# Altium footprint library PCB - DIODES - LED BICOLOR TH 3MM.PcbLib: 1 footprints
Each footprint in its own frame and in the unit in brackets; x right, y up, seen from the top. Pads: shape width x height; smd on the part's side, far side on the other; paste and mask are expansions set on the pad; w line width, h text height; cw(c..) or ccw(c..) is an arc to the next point about the centre after c.
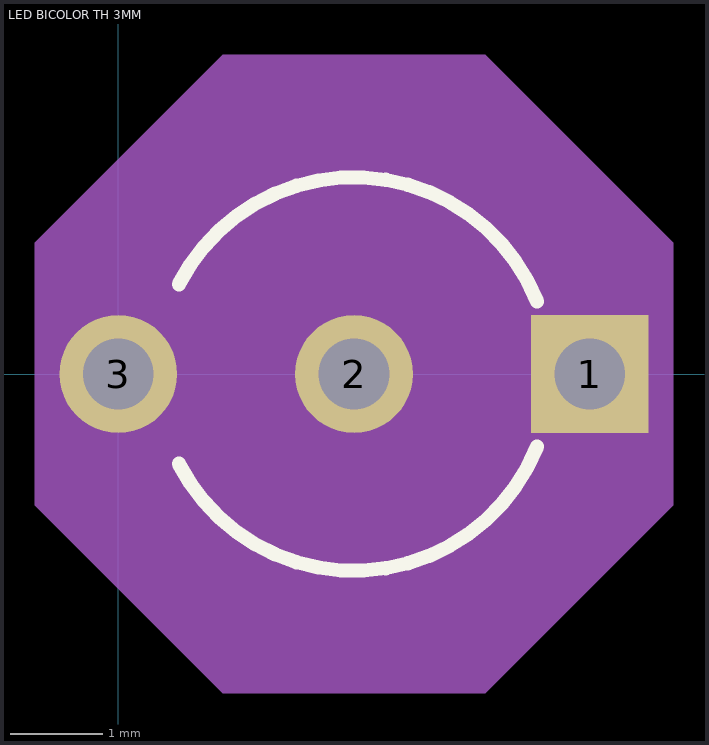
[diagram p0: the footprint, top view; thin cyan lines are the x and y axes]

## LED BICOLOR TH 3MM [mil]
pads (3):
  rect 50x50 / inner round 60 / far side rect 50x50 hole 30 paste-25 mask+0: 1(200,0)
  round 50 / inner round 60 / far side round 50 hole 30 paste-25 mask+0: 2(100,0) 3(0,0)
Top Overlay:
  lines w6: 25.69,-38.08 ccw(c100,0) 177.6,-30.82 ; 25.69,38.08 cw(c100,0) 177.6,30.82
Mechanical 13:
  circle w0: c100,0 r78.5
Mechanical 15:
  region: -35,55.59 44.41,135 155.59,135 235,55.59 235,-55.59 155.59,-135 44.41,-135 -35,-55.59
  lines w1: -35,-55.59 -35,55.59 44.41,135 155.59,135 235,55.59 235,-55.59 155.59,-135 44.41,-135 -35,-55.59
3D body "TH BICOLOR 3MM.step": height 319.11, standoff -78.69, extent -13.56,-82.48 220,75